# Altium footprint library SparkFun-Connectors.PCBLIB: 309 footprints (part 19 of 20)
Each footprint in its own frame and in the unit in brackets; x right, y up, seen from the top. Pads: shape width x height; smd on the part's side, far side on the other; paste and mask are expansions set on the pad; w line width, h text height; cw(c..) or ccw(c..) is an arc to the next point about the centre after c.
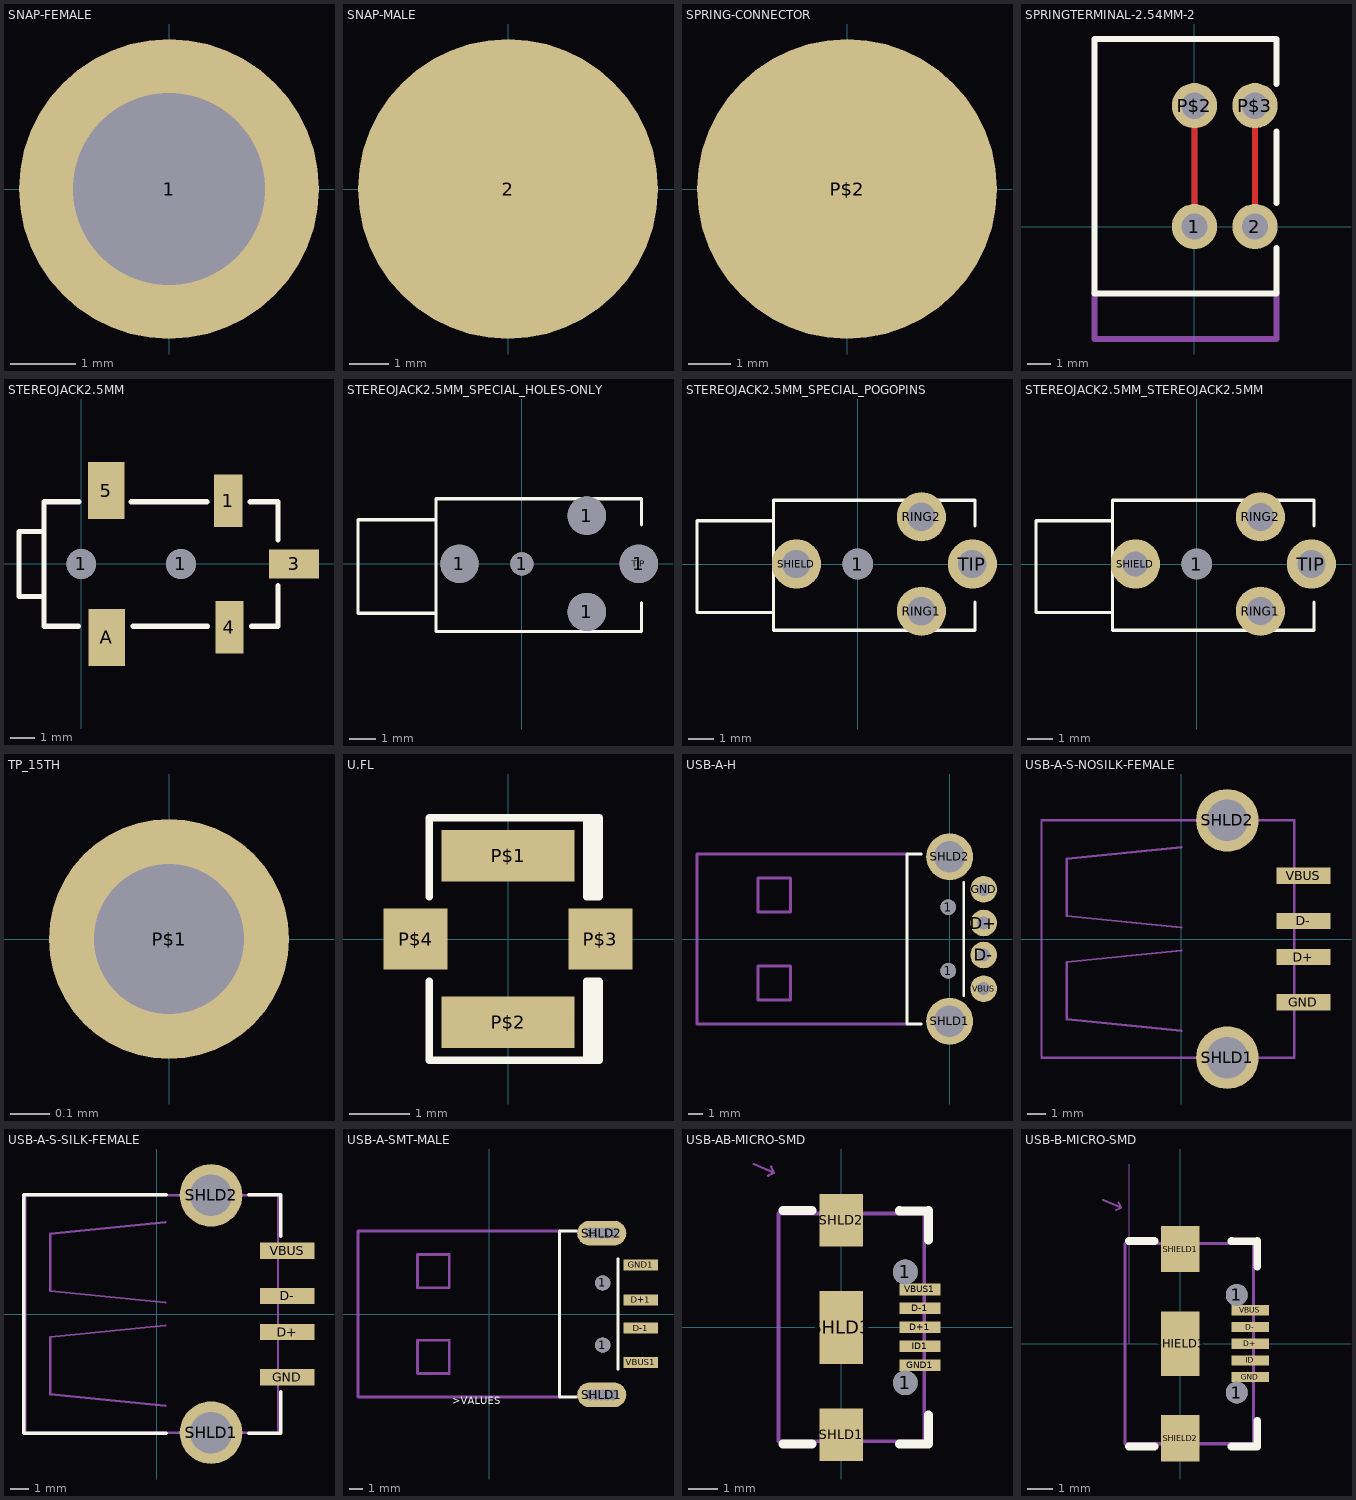
[diagram p18: the footprints below, top view; thin cyan lines are the x and y axes]

## SNAP-FEMALE [mil]
pads (1):
  round 180 hole 115: 1(0,0)
Top Layer:
  region: 0,0 10,0 10,10 0,10
Top Paste:
  region: 0,0 10,0 10,10 0,10
Top Solder:
  region: 0,0 10,0 10,10 0,10
Mechanical 8 keep-out:
  region: 0,0 10,0 10,10 0,10

## SNAP-MALE [mil]
pads (1):
  rrect100% 300x300 smd: 2(0,0)

## SPRING-CONNECTOR [mil]
pads (1):
  rrect100% 280x280 smd: P$2(0,0)

## SPRINGTERMINAL-2.54MM-2 [mil]
pads (4):
  round 74.8 hole 43.31: 1(0,0) 2(100,0) P$2(0,200) P$3(100,200)
Top Layer:
  lines w10: 0,0 0,200 ; 100,0 100,200
Bottom Layer:
  lines w10: 0,0 0,200 ; 100,0 100,200
Top Overlay:
  lines w10: 135.43,-35.43 135.43,-110.24 -165.35,-110.24 -165.35,310.24 135.43,310.24 135.43,236.22 ; 135.43,39.37 135.43,157.48
Mechanical 16:
  lines w10: -165.35,-110.24 -165.35,-185.83 135.43,-185.83 135.43,-110.24

## STEREOJACK2.5MM [mm]
pads (7):
  round 1.2 hole 1.2: 1(0,0) 1(4,0)
  rect 1.145x2.1 smd: 1(5.898,2.54)
  rect 1.998x1.17 smd: 3(8.55,0)
  rect 1.119x2.1 smd: 4(5.949,-2.54)
  rect 1.467x2.3 smd: 5(1,2.951) A(1.016,-2.951)
Top Overlay:
  lines w0.203: -0.121,-2.5 -1.5,-2.5 -1.5,-1.3 ; -0.096,2.5 -1.5,2.5 -1.5,1.3 ; 1.996,2.5 5.052,2.5 ; 2.073,-2.5 5.077,-2.5 ; 6.773,2.5 7.9,2.5 7.9,0.974 ; 6.848,-2.5 7.9,-2.5 7.9,-0.873 ; -1.5,-1.3 -1.5,1.3 ; -1.5,-1.3 -2.5,-1.3 -2.5,1.3 -1.5,1.3

## STEREOJACK2.5MM_SPECIAL_HOLES-ONLY [mil]
pads (9):
  round 58 hole 58: 1(-94.49,0) 1(98.43,-72.83) 1(98.43,72.83) 1(177.17,0)
  round 35 hole 35: 1(0,0)
  round 32 hole 35: RING1(98.43,-72.83) RING2(98.43,72.83) SHIELD(-94.49,0) TIP(177.17,0)
Top Overlay:
  lines w5: 181.1,-59.06 181.1,-102.36 -129.92,-102.36 -129.92,-74.8 ; 181.1,59.06 181.1,98.43 -129.92,98.43 -129.92,66.93 ; -129.92,-74.8 -129.92,66.93 ; -129.92,-74.8 -248.03,-74.8 -248.03,66.93 -129.92,66.93

## STEREOJACK2.5MM_SPECIAL_POGOPINS [mil]
pads (5):
  round 47.24 hole 47.24: 1(0,0)
  round 76 hole 44: RING1(98.43,-72.83) RING2(98.43,72.83) SHIELD(-94.49,0) TIP(177.17,0)
Top Overlay:
  lines w5: 181.1,-59.06 181.1,-102.36 -129.92,-102.36 -129.92,-74.8 ; 181.1,59.06 181.1,98.43 -129.92,98.43 -129.92,66.93 ; -129.92,-74.8 -129.92,66.93 ; -129.92,-74.8 -248.03,-74.8 -248.03,66.93 -129.92,66.93

## STEREOJACK2.5MM_STEREOJACK2.5MM [mil]
pads (5):
  round 47.24 hole 47.24: 1(0,0)
  round 76 hole 43.31: RING1(98.43,-72.83) RING2(98.43,72.83) TIP(177.17,0)
  round 76 hole 39.37: SHIELD(-94.49,0)
Top Overlay:
  lines w5: 181.1,-59.06 181.1,-102.36 -129.92,-102.36 -129.92,-74.8 ; 181.1,59.06 181.1,98.43 -129.92,98.43 -129.92,66.93 ; -129.92,-74.8 -129.92,66.93 ; -129.92,-74.8 -248.03,-74.8 -248.03,66.93 -129.92,66.93

## TP_15TH [mil]
pads (1):
  round 24 hole 15: P$1(0,0)
Bottom Solder:
  circle w0: c0,0 r15

## U.FL [mm]
pads (4):
  rect 2.2x0.85 smd: P$1(0,1.375) P$2(0,-1.375)
  rect 1.05x1 smd: P$3(1.525,0) P$4(-1.525,0)
Top Overlay:
  lines w0.127: -1.3,-0.7 -1.3,-2 1.3,-2 ; -1.3,0.7 -1.3,2 1.3,2 ; 1.4,-2 1.4,-0.7 ; 1.4,0.7 1.4,2 ; 1.3,-2 1.3,-0.7 1.5,-0.7 1.5,-2 1.3,-2 ; 1.3,2 1.3,0.7 1.5,0.7 1.5,2 1.3,2

## USB-A-H [mil]
pads (8):
  round 43.31 hole 43.31: 1(-3.94,-88.58) 1(-3.94,88.58)
  round 74 hole 36: D+(94.49,44.37) D-(94.49,-44.37) GND(94.49,137.8) VBUS(94.49,-137.8)
  round 129.91 hole 86.61: SHLD1(0,-228.35) SHLD2(0,228.35)
Top Overlay:
  lines w8: -78.74,-236.22 -118.11,-236.22 -118.11,236.22 -78.74,236.22 ; 39.37,-157.48 39.37,157.48
Mechanical 16:
  lines w8: -118.11,-236.22 -700.79,-236.22 -700.79,236.22 -118.11,236.22 ; -531.5,-169.29 -531.5,-74.8 -440.94,-74.8 -440.94,-169.29 -531.5,-169.29 ; -531.5,74.8 -531.5,169.29 -440.94,169.29 -440.94,74.8 -531.5,74.8
  text "PCB Edge" at -153.54,-173.23 h77.5

## USB-A-S-NOSILK-FEMALE [mil]
pads (6):
  rect 118.11x35.43 smd: D+(265.83,-39.37) D-(265.83,39.37) GND(265.83,-137.8) VBUS(265.83,137.8)
  round 136.5 hole 91: SHLD1(100,-258.5) SHLD2(100,258.5)
Mechanical 16:
  lines w5: -305,-258.5 245.5,-258.5 ; -305,-255 -305,255 ; -305,258.5 245.5,258.5 ; 0,-200 -250,-175 -250,-50 0,-25 ; 0,25 -250,50 -250,175 0,200 ; 246,-256 246,256

## USB-A-S-SILK-FEMALE [mil]
pads (6):
  rect 118.11x35.43 smd: D+(283.94,-39.37) D-(283.94,39.37) GND(283.94,-137.8) VBUS(283.94,137.8)
  round 136.5 hole 91: SHLD1(118.11,-258.5) SHLD2(118.11,258.5)
Top Overlay:
  lines w8: 20,-260 -290,-260 -290,260 20,260 ; 200,-260 270,-260 270,-170 ; 200,260 270,260 270,170
Mechanical 16:
  lines w5: -286.89,-258.5 263.61,-258.5 ; -286.89,-255 -286.89,255 ; -286.89,258.5 263.61,258.5 ; 18.11,-200 -231.89,-175 -231.89,-50 18.11,-25 ; 18.11,25 -231.89,50 -231.89,175 18.11,200 ; 264.11,-256 264.11,256

## USB-A-SMT-MALE [mil]
pads (16):
  round 31.5 hole 31.5: 1(288.58,-230.32) 1(288.58,230.32) 1(304.33,-230.32) 1(304.33,230.32) 1(335.83,-230.32) 1(335.83,230.32) 1(351.57,-230.32) 1(351.57,230.32)
  round 43.31 hole 43.31: 1(322.83,-88.58) 1(322.83,88.58)
  rect 98.43x31.5 smd: D+1(431.1,40.43) D-1(431.1,-40.43) GND1(431.1,139.8) VBUS1(431.1,-137.8)
  oval 140x70 hole 31.5: SHLD1(320.08,-230.32) SHLD2(320.08,230.32)
Top Overlay:
  lines w8: 248.03,-236.22 200,-236.22 200,236.22 248.03,236.22 ; 366.14,-157.48 366.14,157.48
  text ">VALUES" at -106.3,-257.09 h20.4
Mechanical 16:
  lines w8: 200,-236.22 -374.02,-236.22 -374.02,236.22 200,236.22 ; -204.72,-169.29 -204.72,-74.8 -114.17,-74.8 -114.17,-169.29 -204.72,-169.29 ; -204.72,74.8 -204.72,169.29 -114.17,169.29 -114.17,74.8 -204.72,74.8
  text "PCB Edge" at 173.23,-173.23 h77.5

## USB-AB-MICRO-SMD [mm]
pads (10):
  round 0.85 hole 0.85: 1(2.2,-1.9) 1(2.2,1.9)
  rect 1.4x0.4 smd: D+1(2.7,0) D-1(2.7,0.65) GND1(2.7,-1.3) ID1(2.7,-0.65) VBUS1(2.7,1.3)
  rect 1.5x1.8 smd: SHLD1(0,-3.68) SHLD2(0,3.68)
  rect 1.5x2.5 smd: SHLD3(0,0)
Top Overlay:
  lines w0.305: -2,-4 -1,-4 ; -2,4 -1,4 ; 2,-4 3,-4 3,-3 ; 2,4 2,3.993 2.982,3.993 ; 3,3 3,4
Top Paste:
  rectangle: -0.75,2.784 0.75,4.584
  rectangle: -0.35,-0.75 0.35,0.75
  rectangle: -0.75,-4.584 0.75,-2.784
Top Solder:
  rectangle: -0.85,2.684 0.85,4.684
  rectangle: -0.85,-4.684 0.85,-2.684
  rectangle: -0.85,-1.35 0.85,1.35
Mechanical 14:
  lines w0.127: -2.15,-3.9 -2.15,3.9 2.85,3.9 2.85,-3.9 -2.15,-3.9
Mechanical 16:
  lines w0.08: -3,5.6 -2.3,5.3 ; -2.5,5.2 -2.3,5.3 ; -2.4,5.5 -2.3,5.3
  text "PCB Front" at -4.66,5.96 h0.47

## USB-B-MICRO-SMD [mm]
pads (10):
  round 0.85 hole 0.85: 1(2.2,-1.9) 1(2.2,1.9)
  rect 1.45x0.4 smd: D+(2.725,0) D-(2.725,0.65) GND(2.725,-1.3) ID(2.725,-0.65) VBUS(2.725,1.3)
  rect 1.5x1.8 smd: SHIELD1(0,3.685) SHIELD2(0,-3.685)
  rect 1.5x2.5 smd: SHIELD3(0,0)
Top Overlay:
  lines w0.305: -2,-4 -1,-4 ; -2,4 -1,4 ; 2,-4 3,-4 3,-3 ; 2,4 2,3.993 2.982,3.993 ; 3,3 3,4
Top Paste:
  rectangle: -0.75,2.784 0.75,4.584
  rectangle: -0.35,-0.75 0.35,0.75
  rectangle: -0.75,-4.584 0.75,-2.784
Top Solder:
  rectangle: -0.85,2.684 0.85,4.684
  rectangle: -0.85,-4.684 0.85,-2.684
  rectangle: -0.85,-1.35 0.85,1.35
Mechanical 14:
  lines w0.127: -2.15,-3.9 -2.15,3.9 2.85,3.9 2.85,-3.9 -2.15,-3.9
Mechanical 16:
  lines w0: -2,0 -2,7
  lines w0.08: -3,5.6 -2.3,5.3 ; -2.5,5.2 -2.3,5.3 ; -2.4,5.5 -2.3,5.3
  text "PCB Front" at -4.66,5.96 h0.47